# Altium footprint library A 按钮开关及附件.PcbLib: 31 footprints (part 1 of 2)
Each footprint in its own frame and in the unit in brackets; x right, y up, seen from the top. Pads: shape width x height; smd on the part's side, far side on the other; paste and mask are expansions set on the pad; w line width, h text height; cw(c..) or ccw(c..) is an arc to the next point about the centre after c.
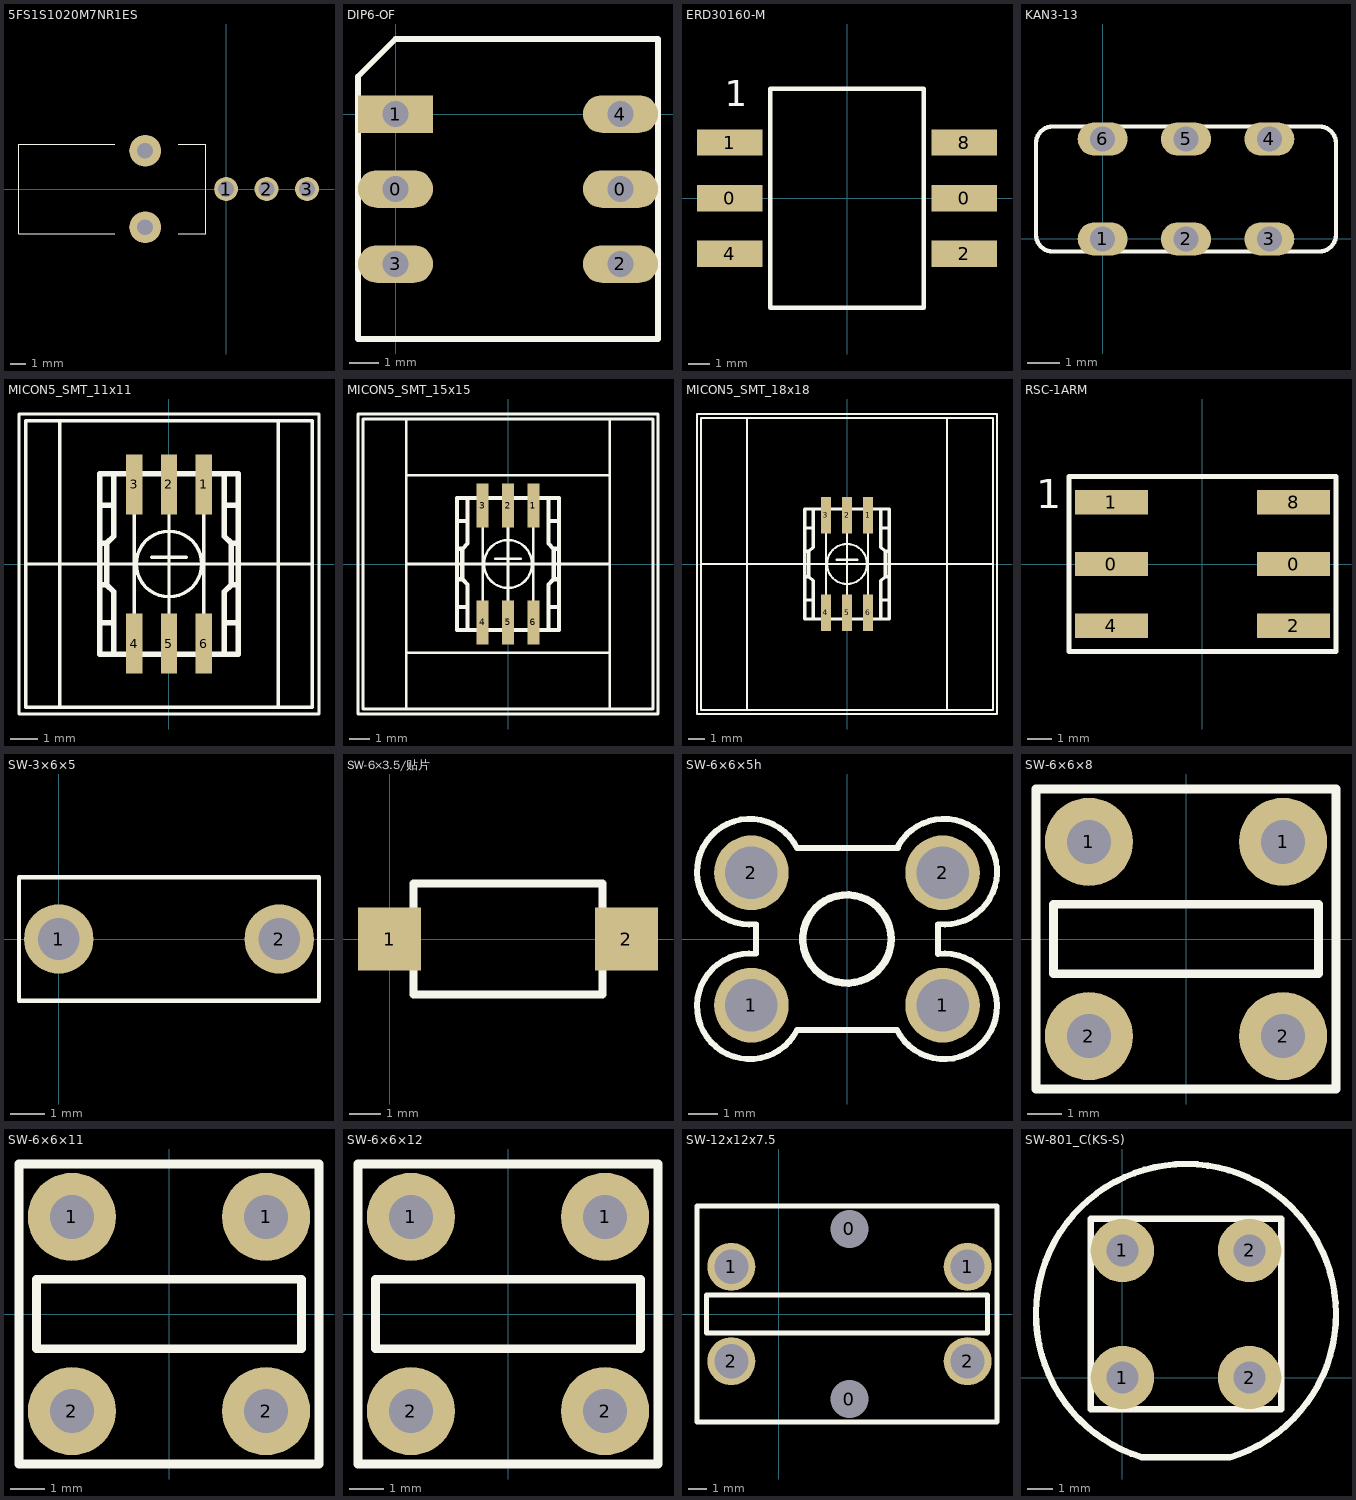
[diagram p0: the footprints below, top view; thin cyan lines are the x and y axes]

## 5FS1S1020M7NR1ES [mm]
height 1.75
pads (5):
  round 1.5 hole 1: 1(0,0) 2(2.54,0) 3(5.08,0)
  round 2 hole 1: ""(-5.08,-2.4) ""(-5.08,2.4)
Top Overlay:
  lines w0.076: -7,-2.8 -13,-2.8 -13,2.8 -7,2.8 ; -3,-2.8 -1.27,-2.8 -1.27,2.8 -3,2.8

## DIP6-OF [mil] "0x00-0x0F编码开关"
height 196.85
pads (6):
  oval 100x50 hole 35: 0(0,-100) 0(300,-100) 2(300,-200) 3(0,-200) 4(300,0)
  rect 100x50 hole 35: 1(0,0)
Top Overlay:
  lines w8: -50,-300 350,-300 350,100 0,100 -50,50 -50,-300

## ERD30160-M [mm] "十六进制编码开关/贴片"
pads (6):
  rect 3x1.2 smd: 0(-5.35,0) 0(5.35,0) 1(-5.35,2.54) 2(5.35,-2.54) 4(-5.35,-2.54) 8(5.35,2.54)
Top Overlay:
  lines w0.203: -3.5,-5 -3.5,5 3.5,5 3.5,-5 -3.5,-5
  text "1" at -5.588,3.81 h2.03

## KAN3-13 [mil] "钮子开关"
height 196.85
pads (6):
  oval 60x40 hole 30: 1(0,0) 2(100,0) 3(200,0) 4(200,120) 5(100,120) 6(0,120)
Top Overlay:
  lines w5: -80,5 ccw(c-60,5) -60,-15 260,-15 ccw(c260,5) 280,5 280,115 ccw(c260,115) 260,135 -60,135 ccw(c-60,115) -80,115 -80,5

## MICON5_SMT_11x11 [mm] "RAFI按钮-贴片"
height 3.85
pads (6):
  rect 0.6x2.2 smd: 1(1.27,2.921) 2(0,2.921) 3(-1.27,2.921) 4(-1.27,-2.921) 5(0,-2.921) 6(1.27,-2.921)
Top Overlay:
  circle w0.127: c0,0 r1.2
  lines w0.127: -5.25,0 5.25,0 ; -4,-5.25 -4,5.25 ; -1.27,-2.032 -1.27,2.032 ; -1.27,0 -0.508,0 ; -0.635,0.254 0.635,0.254 ; 0,-2.032 0,2.032 ; 0.508,0 1.27,0 ; 1.27,-2.032 1.27,2.032 ; 4,-5.25 4,5.25 ; -5.5,-5.5 5.5,-5.5 5.5,5.5 -5.5,5.5 -5.5,-5.5 ; -5.25,-5.25 5.25,-5.25 5.25,5.25 -5.25,5.25 -5.25,-5.25
  lines w0.203: -2.54,-2.159 -2.032,-2.159 ; -2.54,-0.762 -2.286,-0.762 ; -2.54,0.762 -2.286,0.762 ; -2.54,2.159 -2.032,2.159 ; -2.032,-3.302 -2.032,-1.016 -2.286,-0.762 ; -2.032,3.302 -2.032,1.016 -2.286,0.762 ; 2.032,-3.302 2.032,-1.016 2.286,-0.762 ; 2.032,-2.159 2.54,-2.159 ; 2.032,2.159 2.54,2.159 ; 2.032,3.302 2.032,1.016 2.286,0.762 ; 2.54,-0.762 2.286,-0.762 ; 2.54,0.762 2.286,0.762 ; -2.54,-3.302 -2.54,3.302 ; -2.54,-3.302 2.54,-3.302 2.54,3.302 -2.54,3.302 ; -2.54,-3.302 -2.54,3.302 ; -2.286,-0.762 -2.286,0.762 ; 2.286,-0.762 2.286,0.762

## MICON5_SMT_15x15 [mm] "RAFI按钮-贴片"
height 3.85
pads (6):
  rect 0.6x2.2 smd: 1(1.27,2.921) 2(0,2.921) 3(-1.27,2.921) 4(-1.27,-2.921) 5(0,-2.921) 6(1.27,-2.921)
Top Overlay:
  circle w0.127: c0,0 r1.2
  lines w0.127: -5.08,-7.25 -5.08,7.25 ; -5.08,-4.445 5.08,-4.445 ; -5.08,0 5.08,0 ; -5.08,4.445 5.08,4.445 ; -1.27,-2.032 -1.27,2.032 ; -1.27,0 -0.508,0 ; -0.635,0.254 0.635,0.254 ; 0,-2.032 0,-1.016 0,1.016 0,2.032 ; 0.508,0 1.27,0 ; 1.27,-2.032 1.27,2.032 ; 5.08,-7.25 5.08,7.25 ; -7.5,-7.5 7.5,-7.5 7.5,7.5 -7.5,7.5 -7.5,-7.5 ; -7.25,-7.25 -7.25,7.25 7.25,7.25 7.25,-7.25 -7.25,-7.25
  lines w0.203: -2.54,-2.159 -2.032,-2.159 ; -2.54,-0.762 -2.286,-0.762 ; -2.54,0.762 -2.286,0.762 ; -2.54,2.159 -2.032,2.159 ; -2.032,-3.302 -2.032,-1.016 -2.286,-0.762 ; -2.032,3.302 -2.032,1.016 -2.286,0.762 ; 2.032,-3.302 2.032,-1.016 2.286,-0.762 ; 2.032,-2.159 2.54,-2.159 ; 2.032,2.159 2.54,2.159 ; 2.032,3.302 2.032,1.016 2.286,0.762 ; 2.54,-0.762 2.286,-0.762 ; 2.54,0.762 2.286,0.762 ; -2.54,-3.302 -2.54,3.302 ; -2.54,-3.302 2.54,-3.302 2.54,3.302 -2.54,3.302 ; -2.54,-3.302 -2.54,3.302 ; -2.286,-0.762 -2.286,0.762 ; 2.286,-0.762 2.286,0.762

## MICON5_SMT_18x18 [mm] "RAFI按钮-贴片"
height 3.85
pads (6):
  rect 0.6x2.2 smd: 1(1.27,2.921) 2(0,2.921) 3(-1.27,2.921) 4(-1.27,-2.921) 5(0,-2.921) 6(1.27,-2.921)
Top Overlay:
  circle w0.127: c0,0 r1.2
  lines w0.127: -8.75,0 8.75,0 ; -6,-8.75 -6,8.75 ; -1.27,-2.032 -1.27,2.032 ; -1.27,0 -0.508,0 ; -0.635,0.254 0.635,0.254 ; 0,-2.032 0,2.032 ; 0.508,0 1.27,0 ; 1.27,-2.032 1.27,2.032 ; 6,-8.75 6,8.75 ; -9,-9 -9,9 9,9 9,-9 -9,-9 ; -8.75,-8.75 8.75,-8.75 8.75,8.75 -8.75,8.75 -8.75,-8.75
  lines w0.203: -2.54,-2.159 -2.032,-2.159 ; -2.54,-0.762 -2.286,-0.762 ; -2.54,0.762 -2.286,0.762 ; -2.54,2.159 -2.032,2.159 ; -2.032,-3.302 -2.032,-1.016 -2.286,-0.762 ; -2.032,3.302 -2.032,1.016 -2.286,0.762 ; 2.032,-3.302 2.032,-1.016 2.286,-0.762 ; 2.032,-2.159 2.54,-2.159 ; 2.032,2.159 2.54,2.159 ; 2.032,3.302 2.032,1.016 2.286,0.762 ; 2.54,-0.762 2.286,-0.762 ; 2.54,0.762 2.286,0.762 ; -2.54,-3.302 -2.54,3.302 ; -2.54,-3.302 2.54,-3.302 2.54,3.302 -2.54,3.302 ; -2.54,-3.302 -2.54,3.302 ; -2.286,-0.762 -2.286,0.762 ; 2.286,-0.762 2.286,0.762

## RSC-1ARM [mm] "十进制编码开关"
height 23
pads (6):
  rect 3x1 smd: 0(-3.75,0) 0(3.75,0) 1(-3.75,2.54) 2(3.75,-2.54) 4(-3.75,-2.54) 8(3.75,2.54)
Top Overlay:
  lines w0.203: -5.5,-3.6 5.5,-3.6 5.5,3.6 -5.5,3.6 -5.5,-3.6
  text "1" at -6.858,1.905 h2.03

## SW-3×6×5 [mm] "直插小按钮"
height 5
pads (2):
  round 2 hole 1.2: 1(0,0) 2(6.35,0)
Top Overlay:
  lines w0.127: -1.143,-1.778 7.493,-1.778 7.493,1.778 -1.143,1.778 -1.143,-1.778

## SW-6×3.5/贴片 [mm] "贴片小按钮"
height 5
pads (2):
  rect 2x2 smd: 1(0,0) 2(7.5,0)
Top Overlay:
  lines w0.254: 0.75,-1.75 0.75,1.75 6.75,1.75 6.75,-1.75 0.75,-1.75

## SW-6×6×5h [mm] "直插4脚小按钮"
height 5
pads (4):
  round 2.54 hole 1.778: 1(-3.25,-2.25) 1(3.25,-2.25) 2(-3.25,2.25) 2(3.25,2.25)
Top Overlay:
  circle w0.254: c0,0 r1.5
  lines w0.203: -3.1,-0.501 -3.1,0.501 ; -3.099,-0.501 ccw(c-3.302,-2.286) -1.7,-3.098 ; -3.099,0.501 cw(c-3.302,2.286) -1.696,3.089 ; -1.696,-3.1 -0.71,-3.1 0.71,-3.1 1.696,-3.1 ; -1.696,3.1 -0.71,3.1 1.726,3.1 ; 1.696,-3.089 ccw(c3.302,-2.286) 3.099,-0.501 ; 1.743,3.177 cw(c3.302,2.286) 3.099,0.501 ; 3.1,-0.508 3.1,0.456

## SW-6×6×8 [mil] "轻触按钮6×6×8"
height 472.44
pads (4):
  round 100 hole 50: 1(-110,110) 1(110,110) 2(-110,-110) 2(110,-110)
Top Overlay:
  lines w10: -170,-170 -170,170 170,170 170,-170 -170,-170 ; -150,-39.37 -150,39.37 118.11,39.37 150,39.37 150,-39.37 118.11,-39.37 -150,-39.37

## SW-6×6×11 [mil] "轻触按钮6×6×11"
height 433.07
pads (4):
  round 100 hole 50: 1(-110,110) 1(110,110) 2(-110,-110) 2(110,-110)
Top Overlay:
  lines w10: -170,-170 170,-170 170,170 -170,170 -170,-170 ; -150,-39.37 118.11,-39.37 150,-39.37 150,39.37 118.11,39.37 -150,39.37 -150,-39.37

## SW-6×6×12 [mil] "轻触按钮6×6×12"
height 472.44
pads (4):
  round 100 hole 50: 1(-110,110) 1(110,110) 2(-110,-110) 2(110,-110)
Top Overlay:
  lines w10: -170,-170 170,-170 170,170 -170,170 -170,-170 ; -150,-39.37 118.11,-39.37 150,-39.37 150,39.37 118.11,39.37 -150,39.37 -150,-39.37

## SW-12x12x7.5 [mm] "轻触按钮12x12x7.5"
height 7.5
pads (6):
  round 1.524 hole 2: 0(3.75,-4.5) 0(3.75,4.5)
  round 2.54 hole 1.8: 1(-2.5,2.5) 1(10,2.5) 2(-2.5,-2.5) 2(10,-2.5)
Top Overlay:
  lines w0.254: -4.318,-5.715 11.557,-5.715 11.557,5.715 -4.318,5.715 -4.318,2.159 -4.318,-2.159 -4.318,-5.715 ; -3.81,-1 -3.81,1 3,1 11.049,1 11.049,-1 3,-1 -3.81,-1

## SW-801_C(KS-S) [mil] "直插4小小行程按钮"
height 393.7
pads (4):
  round 100 hole 50: 1(0,0) 1(0,200) 2(200,0) 2(200,200)
Top Overlay:
  lines w10: 168.35,-125.56 29.83,-125.56 cw(c100,100) 168.78,-125.98 ; -50,-50 -50,250 250,250 250,100 250,-50 -50,-50